# EAGLE library part RP2040 (library Bits_library_eagle 9x)
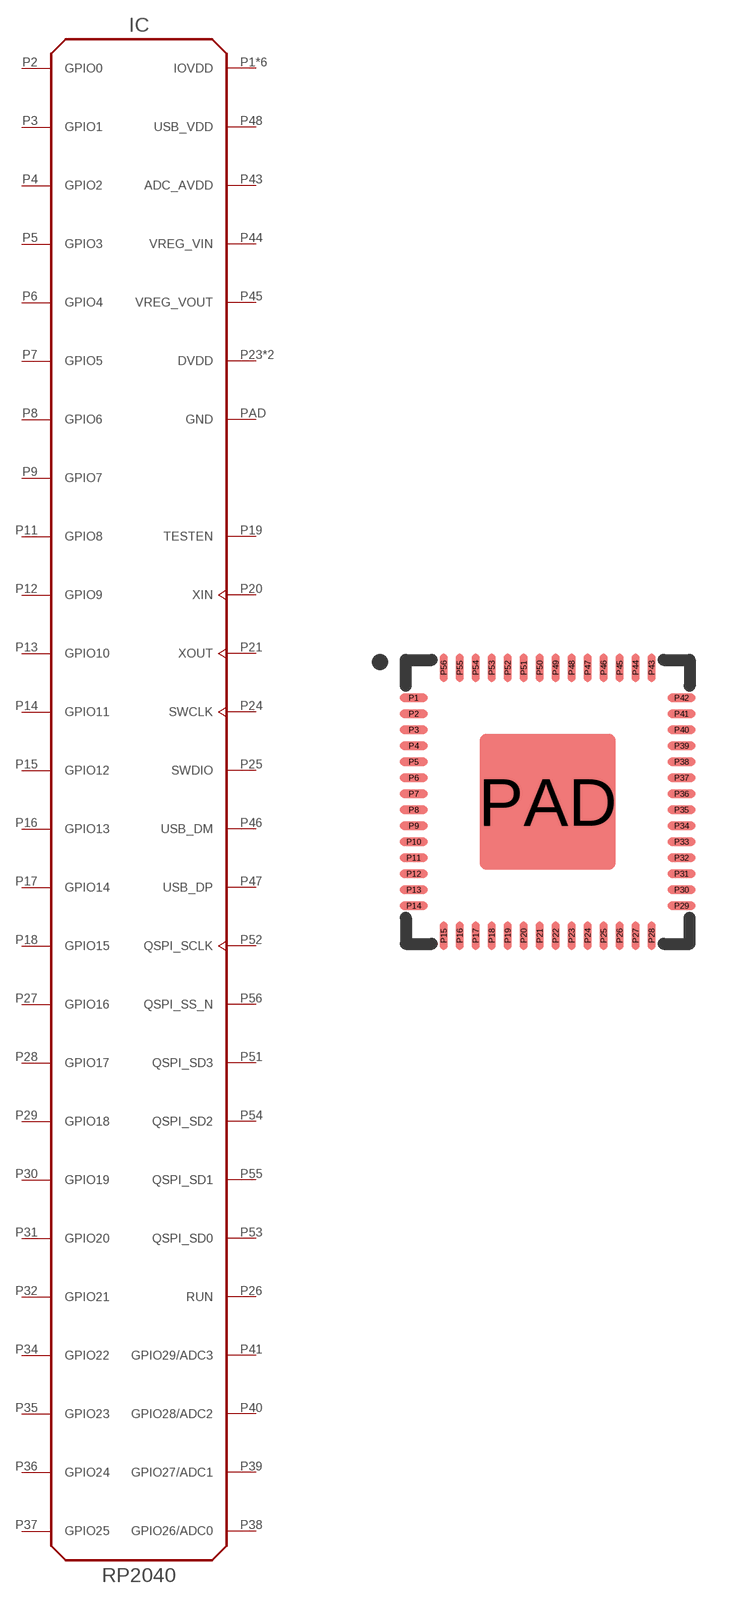
[diagram p31: symbol with the pads of QFN-56; footprint QFN-56]

Designator prefix IC

## RP2040QFN56  [QFN-56]
P1  IOVDD  pwr
P2  GPIO0
P3  GPIO1
P4  GPIO2
P5  GPIO3
P6  GPIO4
P7  GPIO5
P8  GPIO6
P9  GPIO7
P10  IOVDD  pwr
P11  GPIO8
P12  GPIO9
P13  GPIO10
P14  GPIO11
P15  GPIO12
P16  GPIO13
P17  GPIO14
P18  GPIO15
P19  TESTEN
P20  XIN  pas
P21  XOUT  pas
P22  IOVDD  pwr
P23  DVDD  pwr
P24  SWCLK
P25  SWDIO
P26  RUN
P27  GPIO16
P28  GPIO17
P29  GPIO18
P30  GPIO19
P31  GPIO20
P32  GPIO21
P33  IOVDD  pwr
P34  GPIO22
P35  GPIO23
P36  GPIO24
P37  GPIO25
P38  GPIO26/ADC0
P39  GPIO27/ADC1
P40  GPIO28/ADC2
P41  GPIO29/ADC3
P42  IOVDD  pwr
P43  ADC_AVDD  pwr
P44  VREG_VIN  pwr
P45  VREG_VOUT  pwr
P46  USB_DM
P47  USB_DP
P48  USB_VDD  pwr
P49  IOVDD  pwr
P50  DVDD  pwr
P51  QSPI_SD3
P52  QSPI_SCLK  pas
P53  QSPI_SD0
P54  QSPI_SD2
P55  QSPI_SD1
P56  QSPI_SS_N
PAD  GND  pwr

## Footprint QFN-56 (pad centres in mm)
smd 0.7 x 0.2: P1 -3.35,2.6; P2 -3.35,2.2; P3 -3.35,1.8; P4 -3.35,1.4; P5 -3.35,1; P6 -3.35,0.6; P7 -3.35,0.2; P8 -3.35,-0.2; P9 -3.35,-0.6; P10 -3.35,-1; P11 -3.35,-1.4; P12 -3.35,-1.8; P13 -3.35,-2.2; P14 -3.35,-2.6; P29 3.35,-2.6; P30 3.35,-2.2; P31 3.35,-1.8; P32 3.35,-1.4; P33 3.35,-1; P34 3.35,-0.6; P35 3.35,-0.2; P36 3.35,0.2; P37 3.35,0.6; P38 3.35,1; P39 3.35,1.4; P40 3.35,1.8; P41 3.35,2.2; P42 3.35,2.6
smd 0.2 x 0.7: P15 -2.6,-3.35; P16 -2.2,-3.35; P17 -1.8,-3.35; P18 -1.4,-3.35; P19 -1,-3.35; P20 -0.6,-3.35; P21 -0.2,-3.35; P22 0.2,-3.35; P23 0.6,-3.35; P24 1,-3.35; P25 1.4,-3.35; P26 1.8,-3.35; P27 2.2,-3.35; P28 2.6,-3.35; P43 2.6,3.35; P44 2.2,3.35; P45 1.8,3.35; P46 1.4,3.35; P47 1,3.35; P48 0.6,3.35; P49 0.2,3.35; P50 -0.2,3.35; P51 -0.6,3.35; P52 -1,3.35; P53 -1.4,3.35; P54 -1.8,3.35; P55 -2.2,3.35; P56 -2.6,3.35
smd 3.4 x 3.4: PAD 0,0